# Altium schematic symbol library SCH - ARM CORTEX - NXP LPC54S018JBD208.SchLib: 1 symbol
Pins are listed as number, name and electrical type; pins without a type are passive.

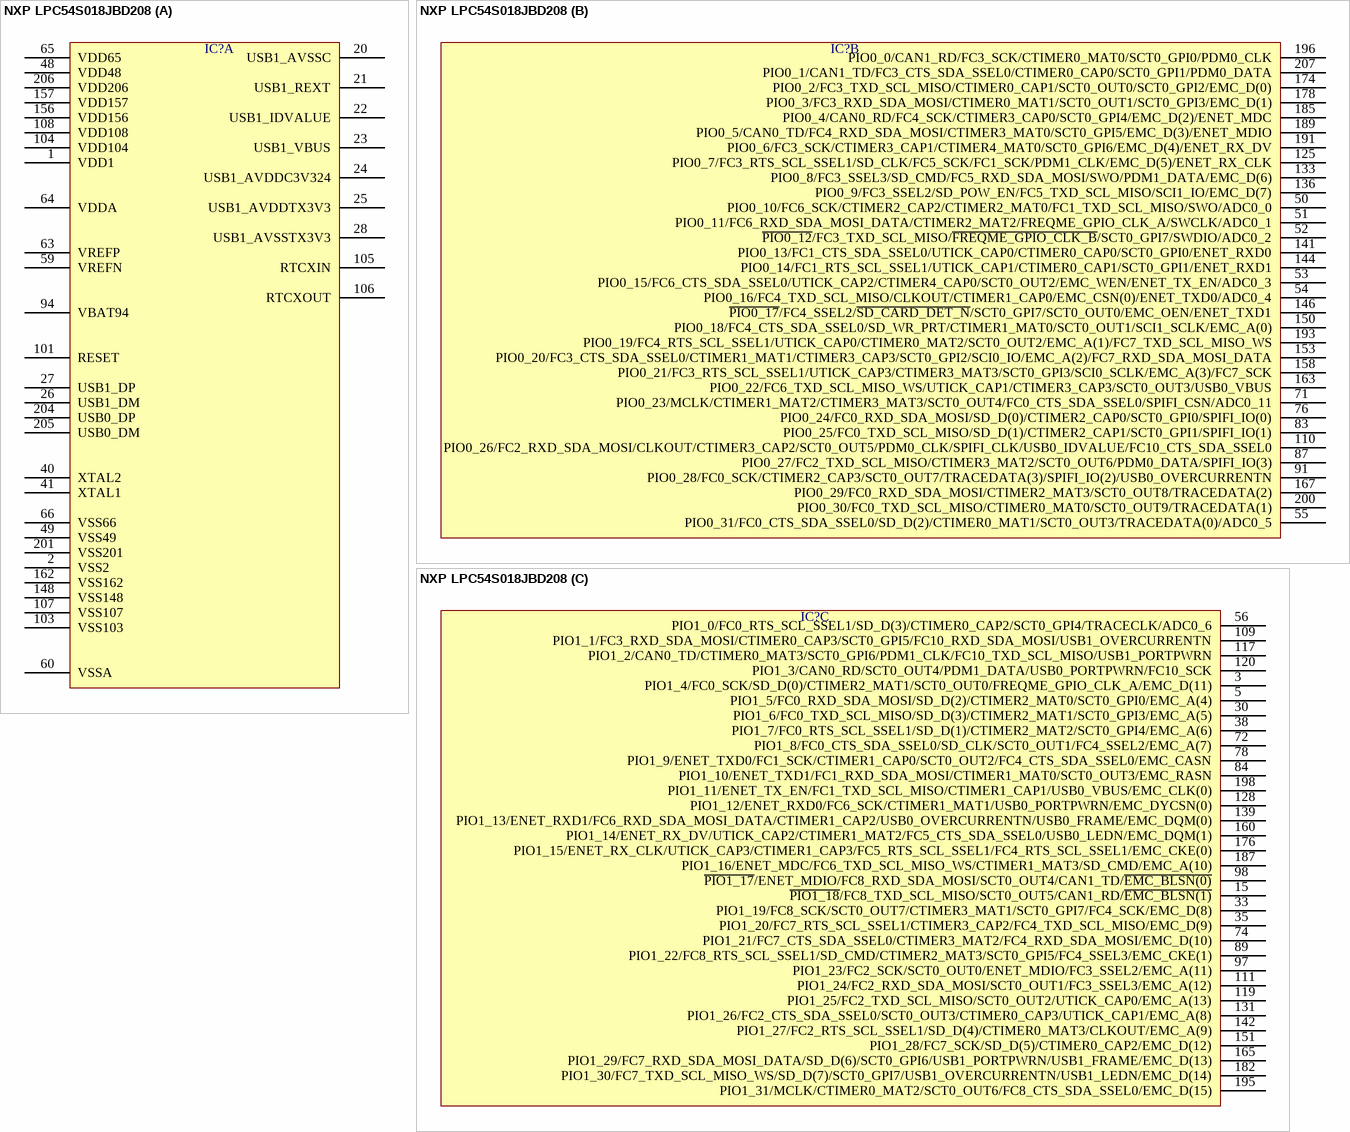
[diagram p0: symbol NXP LPC54S018JBD208]

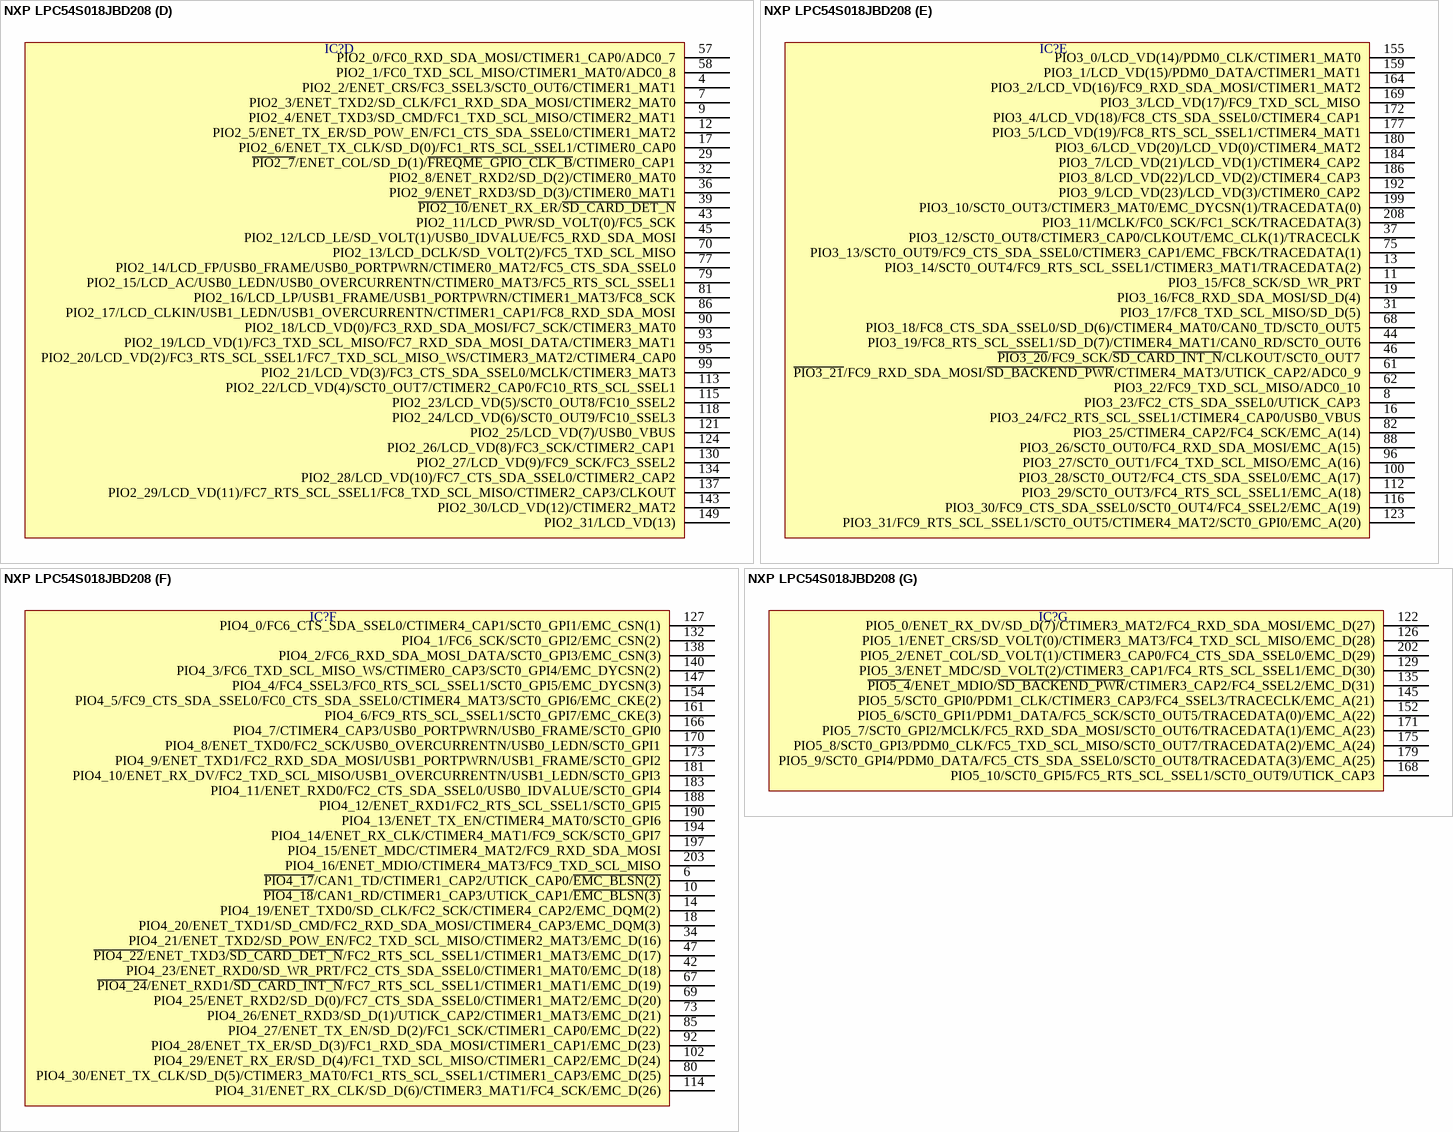
[diagram p1: symbol NXP LPC54S018JBD208]

## NXP LPC54S018JBD208
designator IC?  (value not drawn)
part A pins: 1 VDD1, 2 VSS2, 20 USB1_AVSSC, 21 USB1_REXT, 22 USB1_IDVALUE, 23 USB1_VBUS, 24 USB1_AVDDC3V324, 25 USB1_AVDDTX3V3, 26 USB1_DM, 27 USB1_DP, 28 USB1_AVSSTX3V3, 40 XTAL2, 41 XTAL1, 48 VDD48, 49 VSS49, 59 VREFN, 60 VSSA, 63 VREFP, 64 VDDA, 65 VDD65, 66 VSS66, 94 VBAT94, 101 RESET, 103 VSS103, 104 VDD104, 105 RTCXIN, 106 RTCXOUT, 107 VSS107, 108 VDD108, 148 VSS148, 156 VDD156, 157 VDD157, 162 VSS162, 201 VSS201, 204 USB0_DP, 205 USB0_DM, 206 VDD206
part B pins: 50 PIO0_10/FC6_SCK/CTIMER2_CAP2/CTIMER2_MAT0/FC1_TXD_SCL_MISO/SWO/ADC0_0, 51 PIO0_11/FC6_RXD_SDA_MOSI_DATA/CTIMER2_MAT2/FREQME_GPIO_CLK_A/SWCLK/ADC0_1, 52 ~{PIO0_12}/FC3_TXD_SCL_MISO/~{FREQME_GPIO_CLK_B}/SCT0_GPI7/SWDIO/ADC0_2, 53 PIO0_15/FC6_CTS_SDA_SSEL0/UTICK_CAP2/CTIMER4_CAP0/SCT0_OUT2/EMC_WEN/ENET_TX_EN/ADC0_3, 54 PIO0_16/FC4_TXD_SCL_MISO/CLKOUT/CTIMER1_CAP0/EMC_CSN(0)/ENET_TXD0/ADC0_4, 55 PIO0_31/FC0_CTS_SDA_SSEL0/SD_D(2)/CTIMER0_MAT1/SCT0_OUT3/TRACEDATA(0)/ADC0_5, 71 PIO0_23/MCLK/CTIMER1_MAT2/CTIMER3_MAT3/SCT0_OUT4/FC0_CTS_SDA_SSEL0/SPIFI_CSN/ADC0_11, 76 PIO0_24/FC0_RXD_SDA_MOSI/SD_D(0)/CTIMER2_CAP0/SCT0_GPI0/SPIFI_IO(0), 83 PIO0_25/FC0_TXD_SCL_MISO/SD_D(1)/CTIMER2_CAP1/SCT0_GPI1/SPIFI_IO(1), 87 PIO0_27/FC2_TXD_SCL_MISO/CTIMER3_MAT2/SCT0_OUT6/PDM0_DATA/SPIFI_IO(3), 91 PIO0_28/FC0_SCK/CTIMER2_CAP3/SCT0_OUT7/TRACEDATA(3)/SPIFI_IO(2)/USB0_OVERCURRENTN, 110 PIO0_26/FC2_RXD_SDA_MOSI/CLKOUT/CTIMER3_CAP2/SCT0_OUT5/PDM0_CLK/SPIFI_CLK/USB0_IDVALUE/FC10_CTS_SDA_SSEL0, 125 PIO0_7/FC3_RTS_SCL_SSEL1/SD_CLK/FC5_SCK/FC1_SCK/PDM1_CLK/EMC_D(5)/ENET_RX_CLK, 133 PIO0_8/FC3_SSEL3/SD_CMD/FC5_RXD_SDA_MOSI/SWO/PDM1_DATA/EMC_D(6), 136 PIO0_9/FC3_SSEL2/SD_POW_EN/FC5_TXD_SCL_MISO/SCI1_IO/EMC_D(7), 141 PIO0_13/FC1_CTS_SDA_SSEL0/UTICK_CAP0/CTIMER0_CAP0/SCT0_GPI0/ENET_RXD0, 144 PIO0_14/FC1_RTS_SCL_SSEL1/UTICK_CAP1/CTIMER0_CAP1/SCT0_GPI1/ENET_RXD1, 146 ~{PIO0_17}/FC4_SSEL2/~{SD_CARD_DET_N}/SCT0_GPI7/SCT0_OUT0/EMC_OEN/ENET_TXD1, 150 PIO0_18/FC4_CTS_SDA_SSEL0/SD_WR_PRT/CTIMER1_MAT0/SCT0_OUT1/SCI1_SCLK/EMC_A(0), 153 PIO0_20/FC3_CTS_SDA_SSEL0/CTIMER1_MAT1/CTIMER3_CAP3/SCT0_GPI2/SCI0_IO/EMC_A(2)/FC7_RXD_SDA_MOSI_DATA, 158 PIO0_21/FC3_RTS_SCL_SSEL1/UTICK_CAP3/CTIMER3_MAT3/SCT0_GPI3/SCI0_SCLK/EMC_A(3)/FC7_SCK, 163 PIO0_22/FC6_TXD_SCL_MISO_WS/UTICK_CAP1/CTIMER3_CAP3/SCT0_OUT3/USB0_VBUS, 167 PIO0_29/FC0_RXD_SDA_MOSI/CTIMER2_MAT3/SCT0_OUT8/TRACEDATA(2), 174 PIO0_2/FC3_TXD_SCL_MISO/CTIMER0_CAP1/SCT0_OUT0/SCT0_GPI2/EMC_D(0), 178 PIO0_3/FC3_RXD_SDA_MOSI/CTIMER0_MAT1/SCT0_OUT1/SCT0_GPI3/EMC_D(1), 185 PIO0_4/CAN0_RD/FC4_SCK/CTIMER3_CAP0/SCT0_GPI4/EMC_D(2)/ENET_MDC, 189 PIO0_5/CAN0_TD/FC4_RXD_SDA_MOSI/CTIMER3_MAT0/SCT0_GPI5/EMC_D(3)/ENET_MDIO, 191 PIO0_6/FC3_SCK/CTIMER3_CAP1/CTIMER4_MAT0/SCT0_GPI6/EMC_D(4)/ENET_RX_DV, 193 PIO0_19/FC4_RTS_SCL_SSEL1/UTICK_CAP0/CTIMER0_MAT2/SCT0_OUT2/EMC_A(1)/FC7_TXD_SCL_MISO_WS, 196 PIO0_0/CAN1_RD/FC3_SCK/CTIMER0_MAT0/SCT0_GPI0/PDM0_CLK, 200 PIO0_30/FC0_TXD_SCL_MISO/CTIMER0_MAT0/SCT0_OUT9/TRACEDATA(1), 207 PIO0_1/CAN1_TD/FC3_CTS_SDA_SSEL0/CTIMER0_CAP0/SCT0_GPI1/PDM0_DATA
part C pins: 3 PIO1_4/FC0_SCK/SD_D(0)/CTIMER2_MAT1/SCT0_OUT0/FREQME_GPIO_CLK_A/EMC_D(11), 5 PIO1_5/FC0_RXD_SDA_MOSI/SD_D(2)/CTIMER2_MAT0/SCT0_GPI0/EMC_A(4), 15 ~{PIO1_18}/FC8_TXD_SCL_MISO/SCT0_OUT5/CAN1_RD/~{EMC_BLSN(1)}, 30 PIO1_6/FC0_TXD_SCL_MISO/SD_D(3)/CTIMER2_MAT1/SCT0_GPI3/EMC_A(5), 33 PIO1_19/FC8_SCK/SCT0_OUT7/CTIMER3_MAT1/SCT0_GPI7/FC4_SCK/EMC_D(8), 35 PIO1_20/FC7_RTS_SCL_SSEL1/CTIMER3_CAP2/FC4_TXD_SCL_MISO/EMC_D(9), 38 PIO1_7/FC0_RTS_SCL_SSEL1/SD_D(1)/CTIMER2_MAT2/SCT0_GPI4/EMC_A(6), 56 PIO1_0/FC0_RTS_SCL_SSEL1/SD_D(3)/CTIMER0_CAP2/SCT0_GPI4/TRACECLK/ADC0_6, 72 PIO1_8/FC0_CTS_SDA_SSEL0/SD_CLK/SCT0_OUT1/FC4_SSEL2/EMC_A(7), 74 PIO1_21/FC7_CTS_SDA_SSEL0/CTIMER3_MAT2/FC4_RXD_SDA_MOSI/EMC_D(10), 78 PIO1_9/ENET_TXD0/FC1_SCK/CTIMER1_CAP0/SCT0_OUT2/FC4_CTS_SDA_SSEL0/EMC_CASN, 84 PIO1_10/ENET_TXD1/FC1_RXD_SDA_MOSI/CTIMER1_MAT0/SCT0_OUT3/EMC_RASN, 89 PIO1_22/FC8_RTS_SCL_SSEL1/SD_CMD/CTIMER2_MAT3/SCT0_GPI5/FC4_SSEL3/EMC_CKE(1), 97 PIO1_23/FC2_SCK/SCT0_OUT0/ENET_MDIO/FC3_SSEL2/EMC_A(11), 98 ~{PIO1_17}/ENET_MDIO/FC8_RXD_SDA_MOSI/SCT0_OUT4/CAN1_TD/~{EMC_BLSN(0)}, 109 PIO1_1/FC3_RXD_SDA_MOSI/CTIMER0_CAP3/SCT0_GPI5/FC10_RXD_SDA_MOSI/USB1_OVERCURRENTN, 111 PIO1_24/FC2_RXD_SDA_MOSI/SCT0_OUT1/FC3_SSEL3/EMC_A(12), 117 PIO1_2/CAN0_TD/CTIMER0_MAT3/SCT0_GPI6/PDM1_CLK/FC10_TXD_SCL_MISO/USB1_PORTPWRN, 119 PIO1_25/FC2_TXD_SCL_MISO/SCT0_OUT2/UTICK_CAP0/EMC_A(13), 120 PIO1_3/CAN0_RD/SCT0_OUT4/PDM1_DATA/USB0_PORTPWRN/FC10_SCK, 128 PIO1_12/ENET_RXD0/FC6_SCK/CTIMER1_MAT1/USB0_PORTPWRN/EMC_DYCSN(0), 131 PIO1_26/FC2_CTS_SDA_SSEL0/SCT0_OUT3/CTIMER0_CAP3/UTICK_CAP1/EMC_A(8), 139 PIO1_13/ENET_RXD1/FC6_RXD_SDA_MOSI_DATA/CTIMER1_CAP2/USB0_OVERCURRENTN/USB0_FRAME/EMC_DQM(0), 142 PIO1_27/FC2_RTS_SCL_SSEL1/SD_D(4)/CTIMER0_MAT3/CLKOUT/EMC_A(9), 151 PIO1_28/FC7_SCK/SD_D(5)/CTIMER0_CAP2/EMC_D(12), 160 PIO1_14/ENET_RX_DV/UTICK_CAP2/CTIMER1_MAT2/FC5_CTS_SDA_SSEL0/USB0_LEDN/EMC_DQM(1), 165 PIO1_29/FC7_RXD_SDA_MOSI_DATA/SD_D(6)/SCT0_GPI6/USB1_PORTPWRN/USB1_FRAME/EMC_D(13), 176 PIO1_15/ENET_RX_CLK/UTICK_CAP3/CTIMER1_CAP3/FC5_RTS_SCL_SSEL1/FC4_RTS_SCL_SSEL1/EMC_CKE(0), 182 PIO1_30/FC7_TXD_SCL_MISO_WS/SD_D(7)/SCT0_GPI7/USB1_OVERCURRENTN/USB1_LEDN/EMC_D(14), 187 PIO1_16/ENET_MDC/FC6_TXD_SCL_MISO_WS/CTIMER1_MAT3/SD_CMD/EMC_A(10), 195 PIO1_31/MCLK/CTIMER0_MAT2/SCT0_OUT6/FC8_CTS_SDA_SSEL0/EMC_D(15), 198 PIO1_11/ENET_TX_EN/FC1_TXD_SCL_MISO/CTIMER1_CAP1/USB0_VBUS/EMC_CLK(0)
part D pins: 4 PIO2_2/ENET_CRS/FC3_SSEL3/SCT0_OUT6/CTIMER1_MAT1, 7 PIO2_3/ENET_TXD2/SD_CLK/FC1_RXD_SDA_MOSI/CTIMER2_MAT0, 9 PIO2_4/ENET_TXD3/SD_CMD/FC1_TXD_SCL_MISO/CTIMER2_MAT1, 12 PIO2_5/ENET_TX_ER/SD_POW_EN/FC1_CTS_SDA_SSEL0/CTIMER1_MAT2, 17 PIO2_6/ENET_TX_CLK/SD_D(0)/FC1_RTS_SCL_SSEL1/CTIMER0_CAP0, 29 ~{PIO2_7}/ENET_COL/SD_D(1)/~{FREQME_GPIO_CLK_B}/CTIMER0_CAP1, 32 PIO2_8/ENET_RXD2/SD_D(2)/CTIMER0_MAT0, 36 PIO2_9/ENET_RXD3/SD_D(3)/CTIMER0_MAT1, 39 ~{PIO2_10}/ENET_RX_ER/~{SD_CARD_DET_N}, 43 PIO2_11/LCD_PWR/SD_VOLT(0)/FC5_SCK, 45 PIO2_12/LCD_LE/SD_VOLT(1)/USB0_IDVALUE/FC5_RXD_SDA_MOSI, 57 PIO2_0/FC0_RXD_SDA_MOSI/CTIMER1_CAP0/ADC0_7, 58 PIO2_1/FC0_TXD_SCL_MISO/CTIMER1_MAT0/ADC0_8, 70 PIO2_13/LCD_DCLK/SD_VOLT(2)/FC5_TXD_SCL_MISO, 77 PIO2_14/LCD_FP/USB0_FRAME/USB0_PORTPWRN/CTIMER0_MAT2/FC5_CTS_SDA_SSEL0, 79 PIO2_15/LCD_AC/USB0_LEDN/USB0_OVERCURRENTN/CTIMER0_MAT3/FC5_RTS_SCL_SSEL1, 81 PIO2_16/LCD_LP/USB1_FRAME/USB1_PORTPWRN/CTIMER1_MAT3/FC8_SCK, 86 PIO2_17/LCD_CLKIN/USB1_LEDN/USB1_OVERCURRENTN/CTIMER1_CAP1/FC8_RXD_SDA_MOSI, 90 PIO2_18/LCD_VD(0)/FC3_RXD_SDA_MOSI/FC7_SCK/CTIMER3_MAT0, 93 PIO2_19/LCD_VD(1)/FC3_TXD_SCL_MISO/FC7_RXD_SDA_MOSI_DATA/CTIMER3_MAT1, 95 PIO2_20/LCD_VD(2)/FC3_RTS_SCL_SSEL1/FC7_TXD_SCL_MISO_WS/CTIMER3_MAT2/CTIMER4_CAP0, 99 PIO2_21/LCD_VD(3)/FC3_CTS_SDA_SSEL0/MCLK/CTIMER3_MAT3, 113 PIO2_22/LCD_VD(4)/SCT0_OUT7/CTIMER2_CAP0/FC10_RTS_SCL_SSEL1, 115 PIO2_23/LCD_VD(5)/SCT0_OUT8/FC10_SSEL2, 118 PIO2_24/LCD_VD(6)/SCT0_OUT9/FC10_SSEL3, 121 PIO2_25/LCD_VD(7)/USB0_VBUS, 124 PIO2_26/LCD_VD(8)/FC3_SCK/CTIMER2_CAP1, 130 PIO2_27/LCD_VD(9)/FC9_SCK/FC3_SSEL2, 134 PIO2_28/LCD_VD(10)/FC7_CTS_SDA_SSEL0/CTIMER2_CAP2, 137 PIO2_29/LCD_VD(11)/FC7_RTS_SCL_SSEL1/FC8_TXD_SCL_MISO/CTIMER2_CAP3/CLKOUT, 143 PIO2_30/LCD_VD(12)/CTIMER2_MAT2, 149 PIO2_31/LCD_VD(13)
part E pins: 8 PIO3_23/FC2_CTS_SDA_SSEL0/UTICK_CAP3, 11 PIO3_15/FC8_SCK/SD_WR_PRT, 13 PIO3_14/SCT0_OUT4/FC9_RTS_SCL_SSEL1/CTIMER3_MAT1/TRACEDATA(2), 16 PIO3_24/FC2_RTS_SCL_SSEL1/CTIMER4_CAP0/USB0_VBUS, 19 PIO3_16/FC8_RXD_SDA_MOSI/SD_D(4), 31 PIO3_17/FC8_TXD_SCL_MISO/SD_D(5), 37 PIO3_12/SCT0_OUT8/CTIMER3_CAP0/CLKOUT/EMC_CLK(1)/TRACECLK, 44 PIO3_19/FC8_RTS_SCL_SSEL1/SD_D(7)/CTIMER4_MAT1/CAN0_RD/SCT0_OUT6, 46 ~{PIO3_20}/FC9_SCK/~{SD_CARD_INT_N}/CLKOUT/SCT0_OUT7, 61 ~{PIO3_21}/FC9_RXD_SDA_MOSI/~{SD_BACKEND_PWR}/CTIMER4_MAT3/UTICK_CAP2/ADC0_9, 62 PIO3_22/FC9_TXD_SCL_MISO/ADC0_10, 68 PIO3_18/FC8_CTS_SDA_SSEL0/SD_D(6)/CTIMER4_MAT0/CAN0_TD/SCT0_OUT5, 75 PIO3_13/SCT0_OUT9/FC9_CTS_SDA_SSEL0/CTIMER3_CAP1/EMC_FBCK/TRACEDATA(1), 82 PIO3_25/CTIMER4_CAP2/FC4_SCK/EMC_A(14), 88 PIO3_26/SCT0_OUT0/FC4_RXD_SDA_MOSI/EMC_A(15), 96 PIO3_27/SCT0_OUT1/FC4_TXD_SCL_MISO/EMC_A(16), 100 PIO3_28/SCT0_OUT2/FC4_CTS_SDA_SSEL0/EMC_A(17), 112 PIO3_29/SCT0_OUT3/FC4_RTS_SCL_SSEL1/EMC_A(18), 116 PIO3_30/FC9_CTS_SDA_SSEL0/SCT0_OUT4/FC4_SSEL2/EMC_A(19), 123 PIO3_31/FC9_RTS_SCL_SSEL1/SCT0_OUT5/CTIMER4_MAT2/SCT0_GPI0/EMC_A(20), 155 PIO3_0/LCD_VD(14)/PDM0_CLK/CTIMER1_MAT0, 159 PIO3_1/LCD_VD(15)/PDM0_DATA/CTIMER1_MAT1, 164 PIO3_2/LCD_VD(16)/FC9_RXD_SDA_MOSI/CTIMER1_MAT2, 169 PIO3_3/LCD_VD(17)/FC9_TXD_SCL_MISO, 172 PIO3_4/LCD_VD(18)/FC8_CTS_SDA_SSEL0/CTIMER4_CAP1, 177 PIO3_5/LCD_VD(19)/FC8_RTS_SCL_SSEL1/CTIMER4_MAT1, 180 PIO3_6/LCD_VD(20)/LCD_VD(0)/CTIMER4_MAT2, 184 PIO3_7/LCD_VD(21)/LCD_VD(1)/CTIMER4_CAP2, 186 PIO3_8/LCD_VD(22)/LCD_VD(2)/CTIMER4_CAP3, 192 PIO3_9/LCD_VD(23)/LCD_VD(3)/CTIMER0_CAP2, 199 PIO3_10/SCT0_OUT3/CTIMER3_MAT0/EMC_DYCSN(1)/TRACEDATA(0), 208 PIO3_11/MCLK/FC0_SCK/FC1_SCK/TRACEDATA(3)
part F pins: 6 ~{PIO4_17}/CAN1_TD/CTIMER1_CAP2/UTICK_CAP0/~{EMC_BLSN(2)}, 10 ~{PIO4_18}/CAN1_RD/CTIMER1_CAP3/UTICK_CAP1/~{EMC_BLSN(3)}, 14 PIO4_19/ENET_TXD0/SD_CLK/FC2_SCK/CTIMER4_CAP2/EMC_DQM(2), 18 PIO4_20/ENET_TXD1/SD_CMD/FC2_RXD_SDA_MOSI/CTIMER4_CAP3/EMC_DQM(3), 34 PIO4_21/ENET_TXD2/SD_POW_EN/FC2_TXD_SCL_MISO/CTIMER2_MAT3/EMC_D(16), 42 PIO4_23/ENET_RXD0/SD_WR_PRT/FC2_CTS_SDA_SSEL0/CTIMER1_MAT0/EMC_D(18), 47 ~{PIO4_22}/ENET_TXD3/~{SD_CARD_DET_N}/FC2_RTS_SCL_SSEL1/CTIMER1_MAT3/EMC_D(17), 67 ~{PIO4_24}/ENET_RXD1/~{SD_CARD_INT_N}/FC7_RTS_SCL_SSEL1/CTIMER1_MAT1/EMC_D(19), 69 PIO4_25/ENET_RXD2/SD_D(0)/FC7_CTS_SDA_SSEL0/CTIMER1_MAT2/EMC_D(20), 73 PIO4_26/ENET_RXD3/SD_D(1)/UTICK_CAP2/CTIMER1_MAT3/EMC_D(21), 80 PIO4_30/ENET_TX_CLK/SD_D(5)/CTIMER3_MAT0/FC1_RTS_SCL_SSEL1/CTIMER1_CAP3/EMC_D(25), 85 PIO4_27/ENET_TX_EN/SD_D(2)/FC1_SCK/CTIMER1_CAP0/EMC_D(22), 92 PIO4_28/ENET_TX_ER/SD_D(3)/FC1_RXD_SDA_MOSI/CTIMER1_CAP1/EMC_D(23), 102 PIO4_29/ENET_RX_ER/SD_D(4)/FC1_TXD_SCL_MISO/CTIMER1_CAP2/EMC_D(24), 114 PIO4_31/ENET_RX_CLK/SD_D(6)/CTIMER3_MAT1/FC4_SCK/EMC_D(26), 127 PIO4_0/FC6_CTS_SDA_SSEL0/CTIMER4_CAP1/SCT0_GPI1/EMC_CSN(1), 132 PIO4_1/FC6_SCK/SCT0_GPI2/EMC_CSN(2), 138 PIO4_2/FC6_RXD_SDA_MOSI_DATA/SCT0_GPI3/EMC_CSN(3), 140 PIO4_3/FC6_TXD_SCL_MISO_WS/CTIMER0_CAP3/SCT0_GPI4/EMC_DYCSN(2), 147 PIO4_4/FC4_SSEL3/FC0_RTS_SCL_SSEL1/SCT0_GPI5/EMC_DYCSN(3), 154 PIO4_5/FC9_CTS_SDA_SSEL0/FC0_CTS_SDA_SSEL0/CTIMER4_MAT3/SCT0_GPI6/EMC_CKE(2), 161 PIO4_6/FC9_RTS_SCL_SSEL1/SCT0_GPI7/EMC_CKE(3), 166 PIO4_7/CTIMER4_CAP3/USB0_PORTPWRN/USB0_FRAME/SCT0_GPI0, 170 PIO4_8/ENET_TXD0/FC2_SCK/USB0_OVERCURRENTN/USB0_LEDN/SCT0_GPI1, 173 PIO4_9/ENET_TXD1/FC2_RXD_SDA_MOSI/USB1_PORTPWRN/USB1_FRAME/SCT0_GPI2, 181 PIO4_10/ENET_RX_DV/FC2_TXD_SCL_MISO/USB1_OVERCURRENTN/USB1_LEDN/SCT0_GPI3, 183 PIO4_11/ENET_RXD0/FC2_CTS_SDA_SSEL0/USB0_IDVALUE/SCT0_GPI4, 188 PIO4_12/ENET_RXD1/FC2_RTS_SCL_SSEL1/SCT0_GPI5, 190 PIO4_13/ENET_TX_EN/CTIMER4_MAT0/SCT0_GPI6, 194 PIO4_14/ENET_RX_CLK/CTIMER4_MAT1/FC9_SCK/SCT0_GPI7, 197 PIO4_15/ENET_MDC/CTIMER4_MAT2/FC9_RXD_SDA_MOSI, 203 PIO4_16/ENET_MDIO/CTIMER4_MAT3/FC9_TXD_SCL_MISO
part G pins: 122 PIO5_0/ENET_RX_DV/SD_D(7)/CTIMER3_MAT2/FC4_RXD_SDA_MOSI/EMC_D(27), 126 PIO5_1/ENET_CRS/SD_VOLT(0)/CTIMER3_MAT3/FC4_TXD_SCL_MISO/EMC_D(28), 129 PIO5_3/ENET_MDC/SD_VOLT(2)/CTIMER3_CAP1/FC4_RTS_SCL_SSEL1/EMC_D(30), 135 ~{PIO5_4}/ENET_MDIO/~{SD_BACKEND_PWR}/CTIMER3_CAP2/FC4_SSEL2/EMC_D(31), 145 PIO5_5/SCT0_GPI0/PDM1_CLK/CTIMER3_CAP3/FC4_SSEL3/TRACECLK/EMC_A(21), 152 PIO5_6/SCT0_GPI1/PDM1_DATA/FC5_SCK/SCT0_OUT5/TRACEDATA(0)/EMC_A(22), 168 PIO5_10/SCT0_GPI5/FC5_RTS_SCL_SSEL1/SCT0_OUT9/UTICK_CAP3, 171 PIO5_7/SCT0_GPI2/MCLK/FC5_RXD_SDA_MOSI/SCT0_OUT6/TRACEDATA(1)/EMC_A(23), 175 PIO5_8/SCT0_GPI3/PDM0_CLK/FC5_TXD_SCL_MISO/SCT0_OUT7/TRACEDATA(2)/EMC_A(24), 179 PIO5_9/SCT0_GPI4/PDM0_DATA/FC5_CTS_SDA_SSEL0/SCT0_OUT8/TRACEDATA(3)/EMC_A(25), 202 PIO5_2/ENET_COL/SD_VOLT(1)/CTIMER3_CAP0/FC4_CTS_SDA_SSEL0/EMC_D(29)